# EAGLE library part C8 (library con-ninigi-3.96)
NINIGI
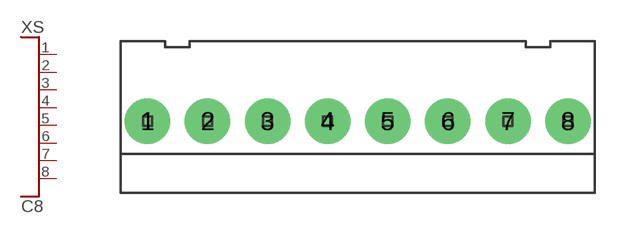
[diagram p2: symbol with the pads of NINIGI8C; footprint NINIGI8C]

Designator prefix XS

## C8  [NINIGI8C]
1  P$1
2  P$2
3  P$3
4  P$4
5  P$5
6  P$6
7  P$7
8  P$8

## Footprint NINIGI8C (pad centres in mm)
drill 1.6 pad 3: 1 -13.86,0; 2 -9.9,0; 3 -5.94,0; 4 -1.98,0; 5 1.98,0; 6 5.94,0; 7 9.9,0; 8 13.86,0